# Altium footprint library SR PCB Library V01.PcbLib: 402 footprints (part 24 of 26)
Each footprint in its own frame and in the unit in brackets; x right, y up, seen from the top. Pads: shape width x height; smd on the part's side, far side on the other; paste and mask are expansions set on the pad; w line width, h text height; cw(c..) or ccw(c..) is an arc to the next point about the centre after c.
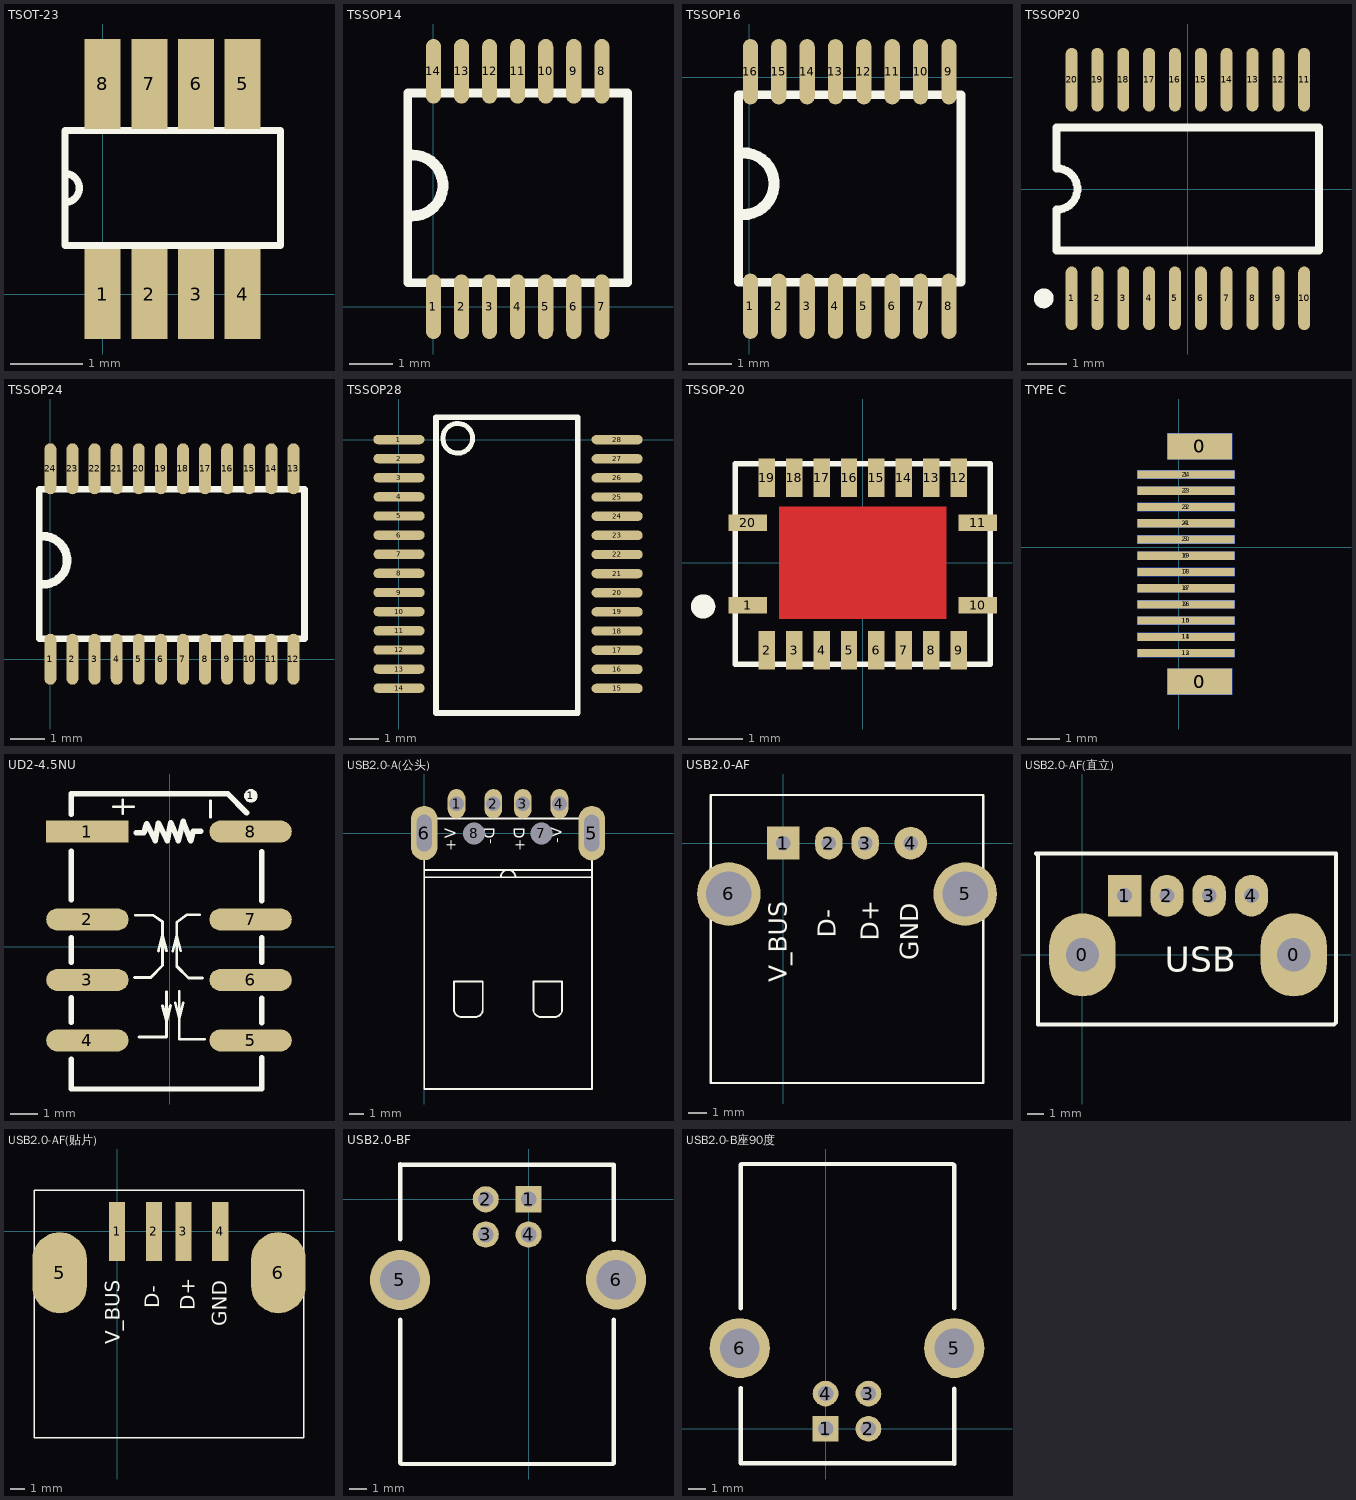
[diagram p23: the footprints below, top view; thin cyan lines are the x and y axes]

## TSOT-23 [mm]
pads (8):
  rect 0.5x1.25 smd: 1(0,0) 2(0.65,0) 3(1.3,0) 4(1.95,0) 5(1.95,2.925) 6(1.3,2.925) 7(0.65,2.925) 8(0,2.925)
Top Overlay:
  lines w0.1: -0.525,1.275 ccw(c-0.525,1.477) -0.525,1.678 ; -0.525,0.675 -0.525,2.275 2.475,2.275 2.475,0.675 -0.525,0.675

## TSSOP14 [mm]
pads (14):
  oval 0.35x1.5 smd: 1(0,0) 2(0.65,0) 3(1.3,0) 4(1.95,0) 5(2.6,0) 6(3.25,0) 7(3.9,0) 8(3.9,5.45) 9(3.25,5.45) 10(2.6,5.45) 11(1.95,5.45) 12(1.3,5.45) 13(0.65,5.45) 14(0,5.45)
Top Overlay:
  lines w0.2: -0.6,0.55 4.5,0.55 4.5,4.95 -0.6,4.95 -0.6,0.55
  lines w0.254: -0.502,3.515 cw(c-0.49,2.808) -0.5,2.1

## TSSOP16 [mm]
pads (16):
  oval 0.35x1.5 smd: 1(0.025,-5.25) 2(0.675,-5.25) 3(1.325,-5.25) 4(1.975,-5.25) 5(2.625,-5.25) 6(3.275,-5.25) 7(3.925,-5.25) 8(4.575,-5.25) 9(4.575,0.125) 10(3.925,0.125) 11(3.275,0.125) 12(2.625,0.125) 13(1.975,0.125) 14(1.325,0.125) 15(0.675,0.125) 16(0.025,0.125)
Top Overlay:
  lines w0.2: -0.25,-4.7 4.85,-4.7 4.85,-0.4 -0.25,-0.4 -0.25,-4.7
  lines w0.254: -0.152,-1.735 cw(c-0.14,-2.442) -0.15,-3.15

## TSSOP20 [mm] "Shrink Small Outline; 20 Leads; Body Width 4.4 mm; Pitch 0.65 mm"
height 1.1
pads (20):
  oval 0.3x1.6 smd: 1(-2.925,-2.75) 2(-2.275,-2.75) 3(-1.625,-2.75) 4(-0.975,-2.75) 5(-0.325,-2.75) 6(0.325,-2.75) 7(0.975,-2.75) 8(1.625,-2.75) 9(2.275,-2.75) 10(2.925,-2.75) 11(2.925,2.75) 12(2.275,2.75) 13(1.625,2.75) 14(0.975,2.75) 15(0.325,2.75) 16(-0.325,2.75) 17(-0.975,2.75) 18(-1.625,2.75) 19(-2.275,2.75) 20(-2.925,2.75)
Top Overlay:
  circle w0.25: c-3.625,-2.75 r0.125
  lines w0.2: -3.3,-1.55 -3.3,-0.52 ccw(c-3.3,0) -3.3,0.52 -3.3,1.55 3.3,1.55 3.3,-1.55 -3.3,-1.55
3D body: height 1.1, standoff 0, extent -3.302,-1.905 3.302,1.905

## TSSOP24 [mm]
pads (24):
  oval 0.35x1.5 smd: 1(0,0) 2(0.65,0) 3(1.3,0) 4(1.95,0) 5(2.6,0) 6(3.25,0) 7(3.9,0) 8(4.55,0) 9(5.2,0) 10(5.85,0) 11(6.5,0) 12(7.15,0) 13(7.15,5.6) 14(6.5,5.6) 15(5.85,5.6) 16(5.2,5.6) 17(4.55,5.6) 18(3.9,5.6) 19(3.25,5.6) 20(2.6,5.6) 21(1.95,5.6) 22(1.3,5.6) 23(0.65,5.6) 24(0,5.6)
Top Overlay:
  lines w0.2: -0.325,0.6 -0.325,5 7.475,5 7.475,0.6 -0.325,0.6
  lines w0.254: -0.227,3.615 cw(c-0.215,2.908) -0.225,2.2

## TSSOP28 [mm]
height 11.5
pads (28):
  oval 1.75x0.32 smd: 1(0.004,0.009) 2(0.009,-0.641) 3(0.009,-1.295) 4(0.009,-1.95) 5(0.009,-2.604) 6(0.009,-3.259) 7(0.009,-3.913) 8(0.009,-4.568) 9(0.009,-5.222) 10(0.009,-5.877) 11(0.009,-6.531) 12(0.009,-7.186) 13(0.009,-7.84) 14(0.009,-8.495) 15(7.469,-8.502) 16(7.469,-7.847) 17(7.469,-7.193) 18(7.469,-6.538) 19(7.469,-5.884) 20(7.469,-5.229) 21(7.469,-4.575) 22(7.469,-3.92) 23(7.469,-3.266) 24(7.469,-2.611) 25(7.469,-1.957) 26(7.469,-1.302) 27(7.469,-0.648) 28(7.469,0.007)
Top Overlay:
  circle w0.17: c2.017,0.052 r0.509
  lines w0.19: 1.274,-9.343 6.128,-9.343 6.128,-0.249 6.128,0.773 1.274,0.773 1.274,-9.343

## TSSOP-20 [mm]
pads (20):
  rect 0.7x0.3 smd: 1(-2.1,-0.775) 10(2.1,-0.775) 11(2.1,0.725) 20(-2.1,0.725)
  rect 0.3x0.7 smd: 2(-1.75,-1.6) 3(-1.25,-1.6) 4(-0.75,-1.6) 5(-0.25,-1.6) 6(0.25,-1.6) 7(0.75,-1.6) 8(1.25,-1.6) 9(1.75,-1.6) 12(1.75,1.55) 13(1.25,1.55) 14(0.75,1.55) 15(0.25,1.55) 16(-0.25,1.55) 17(-0.75,1.55) 18(-1.25,1.55) 19(-1.75,1.55)
Top Layer:
  rectangle: -1.525,-1.025 1.525,1.025
Top Overlay:
  circle w0.22: c-2.912,-0.8 r0.112
  lines w0.1: -2.325,-1.85 2.329,-1.85 2.329,1.8 -2.325,1.8 -2.325,-1.85

## TYPE C [mm]
pads (28):
  rect 2x0.8 smd: 0(0.64,-4.134) 0(0.64,3.105)
  rect 2x0.8 smd far side: 0(0.64,-4.134) 0(0.64,3.105)
  rect 3x0.25 smd: 1(0.217,2.24) 2(0.217,1.74) 3(0.217,1.24) 4(0.217,0.74) 5(0.217,0.24) 6(0.217,-0.26) 7(0.217,-0.76) 8(0.217,-1.26) 9(0.217,-1.76) 10(0.217,-2.26) 11(0.217,-2.76) 12(0.217,-3.26)
  rect 3x0.25 smd far side: 13(0.217,-3.26) 14(0.217,-2.76) 15(0.217,-2.26) 16(0.217,-1.76) 17(0.217,-1.26) 18(0.217,-0.76) 19(0.217,-0.26) 20(0.217,0.24) 21(0.217,0.74) 22(0.217,1.24) 23(0.217,1.74) 24(0.217,2.24)

## UD2-4.5NU [mm]
pads (9):
  rect 3x0.8 smd: 1(-2.998,4.188)
  round 0.5 on Top Overlay: 1(2.952,5.488)
  oval 3x0.8 smd: 2(-2.998,0.988) 3(-2.998,-1.212) 4(-2.998,-3.412) 5(2.942,-3.412) 6(2.942,-1.212) 7(2.942,0.988) 8(2.942,4.188)
Top Overlay:
  lines w0.1: -2.058,5.088 -1.318,5.088 ; -1.708,4.838 -1.708,5.338 ; -1.283,-1.122 -0.691,-1.124 ; -1.248,1.142 -0.604,1.142 -0.264,0.909 -0.264,0.479 -0.264,-0.691 -0.691,-1.118 ; -1.121,-3.292 -0.121,-3.292 -0.121,-1.642 ; -0.414,-0.156 -0.264,0.414 ; -0.267,-2.151 -0.121,-2.69 ; -0.264,0.387 -0.118,-0.152 ; -0.121,-2.717 0.029,-2.146 ; 0.104,-0.156 0.254,0.414 ; 0.196,-2.051 0.342,-2.59 ; 0.254,0.387 0.4,-0.152 ; 0.342,-2.617 0.492,-2.046 ; 0.342,-1.631 0.342,-3.373 1.273,-3.373 ; 1.092,1.162 0.62,1.162 0.254,0.889 0.254,-0.713 0.686,-1.145 1.192,-1.145 ; 1.482,4.708 1.482,5.308 ; -0.691,-1.124 -0.691,-1.118 ; -0.691,-1.124 -0.691,-1.118
  lines w0.2: -3.578,-4.093 -3.578,-5.182 3.342,-5.182 3.342,-4.042 ; -3.578,-2.747 -3.578,-1.858 ; -3.578,-0.562 -3.578,0.327 ; -3.578,1.698 -3.578,3.476 ; -3.578,4.823 -3.578,5.568 2.102,5.568 2.797,4.873 ; -1.218,4.138 -0.945,4.138 -0.835,4.478 -0.525,3.848 -0.415,4.498 -0.085,3.858 0.035,4.518 0.315,3.858 0.485,4.568 0.765,3.848 0.856,4.2 1.132,4.2 ; 3.342,-2.772 3.342,-1.883 ; 3.342,-0.562 3.342,0.327 ; 3.342,1.673 3.342,3.451

## USB2.0-A(公头) [mm]
pads (8):
  oval 1.2x2 hole 1: 1(2.198,1.994) 2(4.701,1.997) 3(6.704,1.997) 4(9.197,2)
  oval 1.8x3.7 hole 1 slot 2.5 at 90 deg: 5(11.395,-0.003) 6(0,0)
  round 1.2 hole 1.5: 7(7.966,-0.015) 8(3.394,-0.015)
Top Overlay:
  lines w0.127: 0.003,-3.004 11.403,-3.004 ; 0.003,-2.504 11.403,-2.504 ; 0.003,-1.404 0.003,-17.404 11.403,-17.404 11.403,-1.404 ; 0.493,0.996 10.913,0.996 ; 5.203,-3.004 cw(c5.703,-3.004) 6.203,-3.004 ; 2.028,-12.004 ccw(c2.528,-12.004) 2.528,-12.504 3.478,-12.504 ccw(c3.478,-12.004) 3.978,-12.004 3.978,-10.104 2.028,-10.104 2.028,-12.004 ; 7.428,-12.004 ccw(c7.928,-12.004) 7.928,-12.504 8.878,-12.504 ccw(c8.878,-12.004) 9.378,-12.004 9.378,-10.104 7.428,-10.104 7.428,-12.004
  text "D+" at 7.098,0.409 h1.27
  text "V+" at 2.428,0.316 h1.27
  text "V-" at 9.638,0.409 h1.27
  text "D-" at 5.073,0.409 h1.27

## USB2.0-AF [mm]
height 2.8
pads (6):
  rect 1.8x1.8 hole 0.8: 1(0,0)
  oval 1.5x1.8 hole 0.8: 2(2.5,0) 3(4.5,0)
  round 1.8 hole 0.8: 4(7,0)
  round 3.5 hole 2.5: 5(10,-2.8) 6(-3,-2.8)
Top Overlay:
  lines w0.127: -4,-13.2 -4,2.65 11,2.65 11,-13.2 -4,-13.2
  text "GND" at 7.43,-6.43 h1
  text "V_BUS" at 0.18,-7.66 h1
  text "D+" at 5.26,-5.36 h1
  text "D-" at 2.87,-5.2 h1

## USB2.0-AF(直立) [mm]
pads (6):
  oval 4x5 hole 2: 0(0,0) 0(12.7,0)
  rect 2x2.5 hole 0.9: 1(2.54,3.556)
  oval 2x2.5 hole 0.9: 2(5.08,3.556) 3(7.62,3.556) 4(10.16,3.556)
Top Overlay:
  lines w0.254: -2.794,6.096 -2.667,5.969 -2.667,-4.191 15.113,-4.191 15.24,-4.064 15.24,6.096 -2.794,6.096
  text "USB" at 4.953,-1.016 h1.52

## USB2.0-AF(贴片) [mm]
height 2.8
pads (6):
  rect 1.1x4 smd: 1(0,0) 2(2.5,0) 3(4.5,0) 4(7,0)
  oval 3.7x5.5 smd: 5(-3.9,-2.8) 6(10.95,-2.8)
Top Overlay:
  lines w0.1: -5.6,-14 12.65,-14 12.65,2.8 -5.6,2.8 -5.6,-14
  text "D-" at 2.87,-5.2 h1
  text "D+" at 5.26,-5.36 h1
  text "V_BUS" at 0.18,-7.66 h1
  text "GND" at 7.43,-6.43 h1

## USB2.0-BF [mil]
height 452.76
pads (6):
  rect 60x60 hole 36: 1(0,0)
  round 60 hole 36: 2(-98.42,0) 3(-98.42,-80.71) 4(0,-80.71)
  round 138 hole 91: 5(-295.28,-185.04)
  round 138 hole 90.55: 6(200.45,-184.26)
Top Overlay:
  lines w10: -294.97,-276.02 -294.97,-604.48 -292.11,-607.34 193.44,-607.34 194.87,-605.91 194.87,-276.02 ; -294.97,-91.8 -294.97,81 -293.54,79.58 194.87,79.58 194.87,-93.22

## USB2.0-B座90度 [mm]
pads (6):
  rect 1.5x1.5 hole 0.9: 1(0,0)
  round 1.5 hole 0.9: 2(2.5,0) 3(2.5,2.05) 4(0,2.05)
  round 3.5 hole 2.3: 5(7.5,4.7) 6(-5,4.7)
Top Overlay:
  lines w0.254: -4.95,2.368 -4.95,-2.021 7.456,-2.021 7.492,-2.057 7.492,2.332 ; -4.95,7.011 -4.95,15.39 -4.913,15.426 7.42,15.426 7.492,15.354 7.492,7.011

## USB2.0-B座90度(贴片) [mm]